# EAGLE library part TC10 (library micro-siemens)
+ Obsolete + TC10 GP TriCore 32bit Microcontroller+ DSP Source: http://www.infineon.com ..
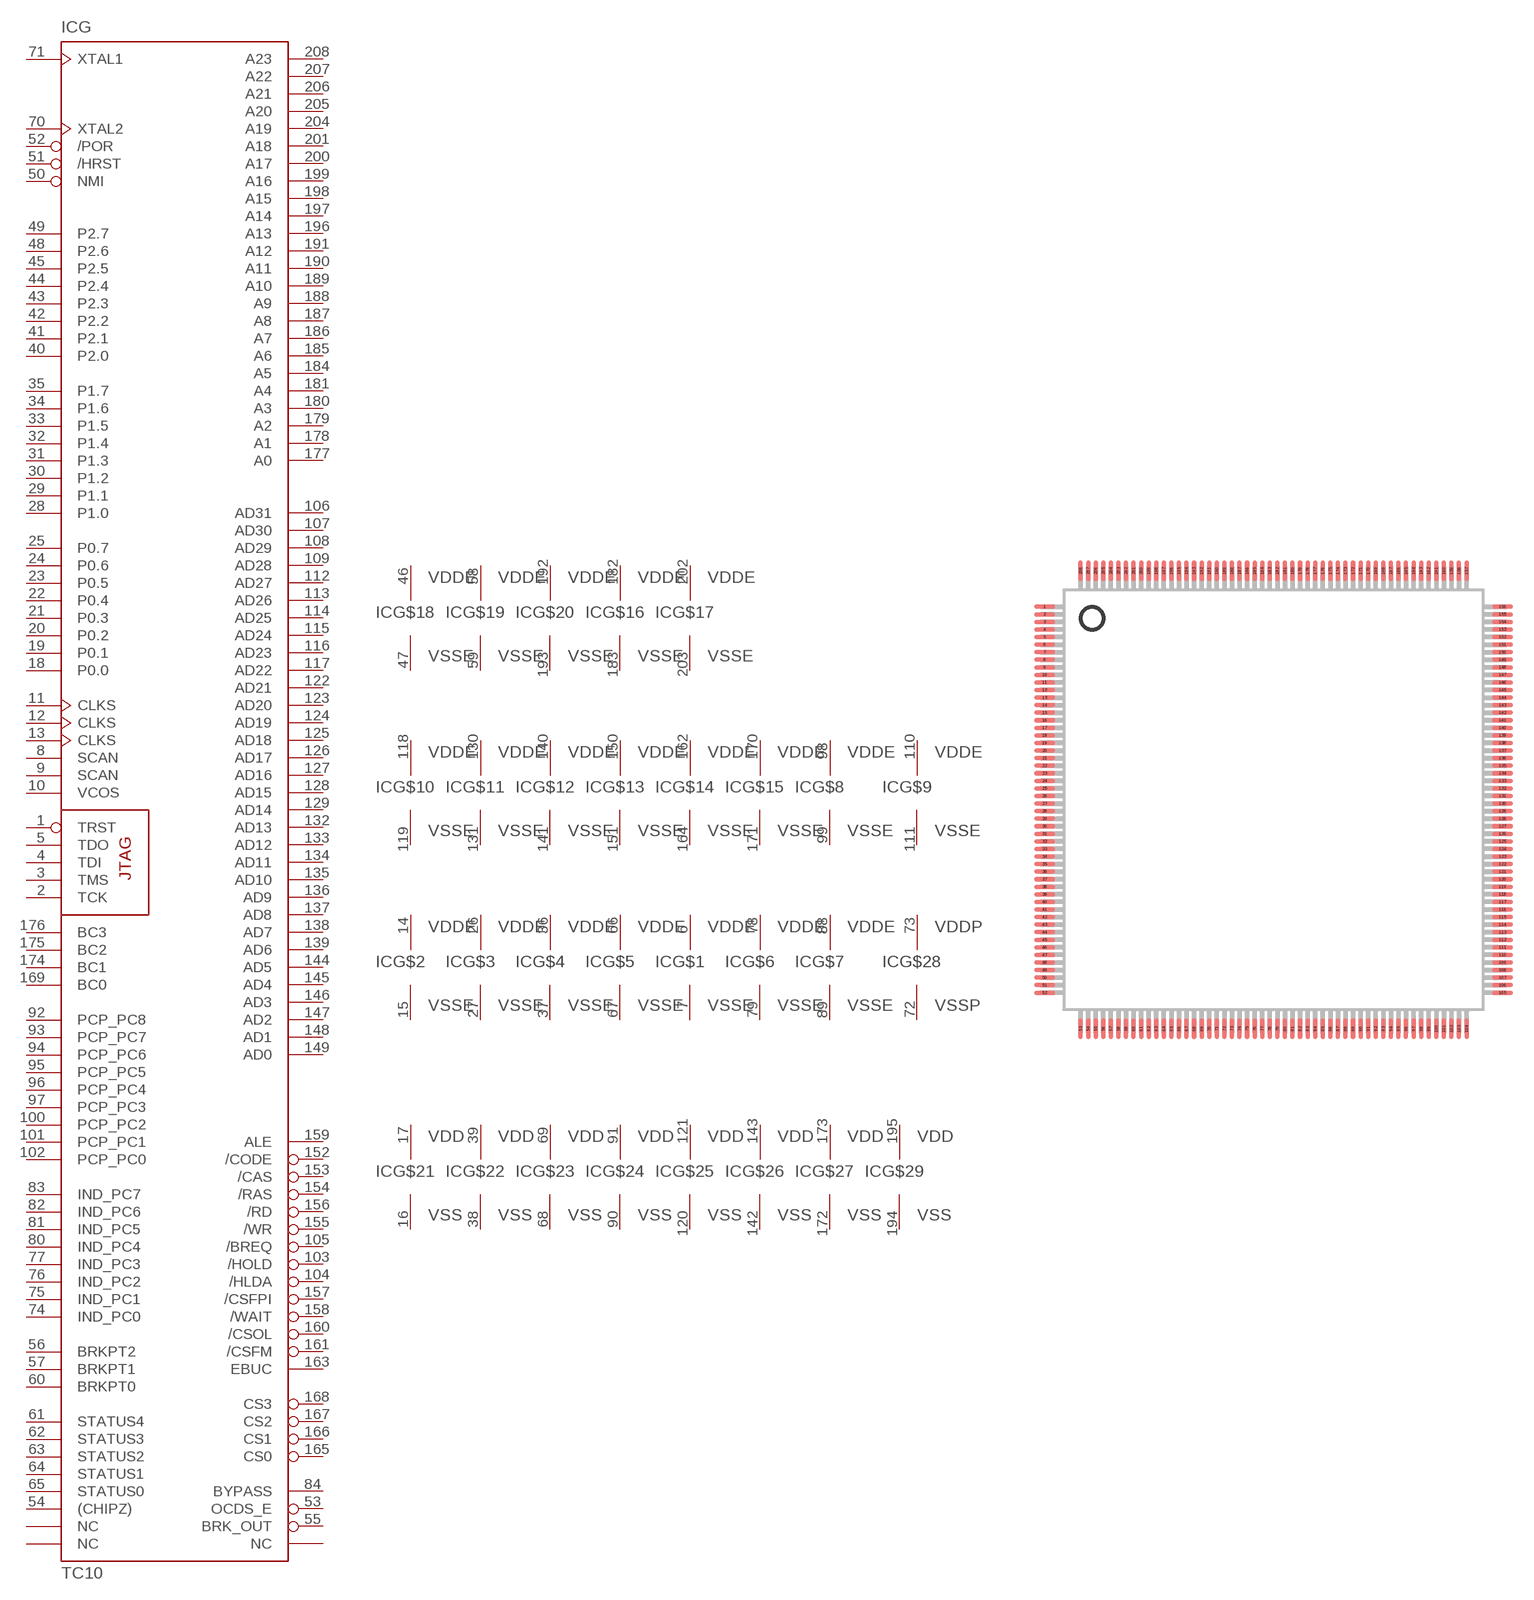
[diagram p43: symbol with the pads of FQFP208-2; footprint FQFP208-2]

Designator prefix IC; gates G=TC10 G$2=VSSE_VDD G$3=VSSE_VDD G$4=VSSE_VDD G$5=VSSE_VDD G$6=VSSE_VDD G$7=VSSE_VDD G$8=VSSE_VDD G$9=VSSE_VDD G$10=VSSE_VDD G$11=VSSE_VDD G$12=VSSE_VDD G$13=VSSE_VDD G$14=VSSE_VDD G$15=VSSE_VDD G$16=VSSE_VDD G$17=VSSE_VDD G$18=VSSE_VDD G$19=VSSE_VDD G$20=VSSE_VDD G$21=VSS_VDD G$22=VSS_VDD G$23=VSS_VDD G$24=VSS_VDD G$25=VSS_VDD G$26=VSS_VDD G$27=VSS_VDD G$28=VSSP_VDD G$1=VSSE_VDD G$29=VSS_VDD

## TC10 (OC_FARNELL: unknown; OC_NEWARK: unknown)  [FQFP208-2]
1  G:TRST  in
2  G:TCK  in
3  G:TMS  in
4  G:TDI  in
5  G:TDO  in
6  G$1:VDDE  pwr
7  G$1:VSSE  pwr
8  G:SCAN  in
9  G:SCAN  in
10  G:VCOS  in
11  G:CLKS  in
12  G:CLKS  in
13  G:CLKS  in
14  G$2:VDDE  pwr
15  G$2:VSSE  pwr
16  G$21:VSS  pwr
17  G$21:VDD  pwr
18  G:P0.0
19  G:P0.1
20  G:P0.2
21  G:P0.3
22  G:P0.4
23  G:P0.5
24  G:P0.6
25  G:P0.7
26  G$3:VDDE  pwr
27  G$3:VSSE  pwr
28  G:P1.0
29  G:P1.1
30  G:P1.2
31  G:P1.3
32  G:P1.4
33  G:P1.5
34  G:P1.6
35  G:P1.7
36  G$4:VDDE  pwr
37  G$4:VSSE  pwr
38  G$22:VSS  pwr
39  G$22:VDD  pwr
40  G:P2.0
41  G:P2.1
42  G:P2.2
43  G:P2.3
44  G:P2.4
45  G:P2.5
46  G$18:VDDE  pwr
47  G$18:VSSE  pwr
48  G:P2.6
49  G:P2.7
50  G:NMI  in
51  G:/HRST  in
52  G:/POR  in
53  G:OCDS_E  out
54  G:(CHIPZ)
55  G:BRK_OUT  out
56  G:BRKPT2
57  G:BRKPT1
58  G$19:VDDE  pwr
59  G$19:VSSE  pwr
60  G:BRKPT0
61  G:STATUS4
62  G:STATUS3
63  G:STATUS2
64  G:STATUS1
65  G:STATUS0
66  G$5:VDDE  pwr
67  G$5:VSSE  pwr
68  G$23:VSS  pwr
69  G$23:VDD  pwr
70  G:XTAL2  out
71  G:XTAL1  in
72  G$28:VSSP  pwr
73  G$28:VDDP  pwr
74  G:IND_PC0
75  G:IND_PC1
76  G:IND_PC2
77  G:IND_PC3
78  G$6:VDDE  pwr
79  G$6:VSSE  pwr
80  G:IND_PC4
81  G:IND_PC5
82  G:IND_PC6
83  G:IND_PC7
84  G:BYPASS
85  G:NC  nc
86  G:NC  nc
87  G:NC  nc
88  G$7:VDDE  pwr
89  G$7:VSSE  pwr
90  G$24:VSS  pwr
91  G$24:VDD  pwr
92  G:PCP_PC8
93  G:PCP_PC7
94  G:PCP_PC6
95  G:PCP_PC5
96  G:PCP_PC4
97  G:PCP_PC3
98  G$8:VDDE  pwr
99  G$8:VSSE  pwr
100  G:PCP_PC2
101  G:PCP_PC1
102  G:PCP_PC0
103  G:/HOLD  out
104  G:/HLDA  out
105  G:/BREQ  out
106  G:AD31
107  G:AD30
108  G:AD29
109  G:AD28
110  G$9:VDDE  pwr
111  G$9:VSSE  pwr
112  G:AD27
113  G:AD26
114  G:AD25
115  G:AD24
116  G:AD23
117  G:AD22
118  G$10:VDDE  pwr
119  G$10:VSSE  pwr
120  G$25:VSS  pwr
121  G$25:VDD  pwr
122  G:AD21
123  G:AD20
124  G:AD19
125  G:AD18
126  G:AD17
127  G:AD16
128  G:AD15
129  G:AD14
130  G$11:VDDE  pwr
131  G$11:VSSE  pwr
132  G:AD13
133  G:AD12
134  G:AD11
135  G:AD10
136  G:AD9
137  G:AD8
138  G:AD7
139  G:AD6
140  G$12:VDDE  pwr
141  G$12:VSSE  pwr
142  G$26:VSS  pwr
143  G$26:VDD  pwr
144  G:AD5
145  G:AD4
146  G:AD3
147  G:AD2
148  G:AD1
149  G:AD0
150  G$13:VDDE  pwr
151  G$13:VSSE  pwr
152  G:/CODE  out
153  G:/CAS  out
154  G:/RAS  out
155  G:/WR  out
156  G:/RD  out
157  G:/CSFPI  out
158  G:/WAIT  out
159  G:ALE  out
160  G:/CSOL  out
161  G:/CSFM  out
162  G$14:VDDE  pwr
163  G:EBUC  out
164  G$14:VSSE  pwr
165  G:CS0  out
166  G:CS1  out
167  G:CS2  out
168  G:CS3  out
169  G:BC0
170  G$15:VDDE  pwr
171  G$15:VSSE  pwr
172  G$27:VSS  pwr
173  G$27:VDD  pwr
174  G:BC1
175  G:BC2
176  G:BC3
177  G:A0  out
178  G:A1  out
179  G:A2  out
180  G:A3  out
181  G:A4  out
182  G$16:VDDE  pwr
183  G$16:VSSE  pwr
184  G:A5  out
185  G:A6  out
186  G:A7  out
187  G:A8  out
188  G:A9  out
189  G:A10  out
190  G:A11  out
191  G:A12  out
192  G$20:VDDE  pwr
193  G$20:VSSE  pwr
194  G$29:VSS  pwr
195  G$29:VDD  pwr
196  G:A13  out
197  G:A14  out
198  G:A15  out
199  G:A16  out
200  G:A17  out
201  G:A18  out
202  G$17:VDDE  pwr
203  G$17:VSSE  pwr
204  G:A19  out
205  G:A20  out
206  G:A21  out
207  G:A22  out
208  G:A23  out

## Footprint FQFP208-2 (pad centres in mm)
P-FQFP-208-2, -4, -7 Plastic Fine Pitch Quad Flat Package Source: http://www.infineon.com
smd 1.4 x 0.31: 1 -15.125,12.75; 2 -15.125,12.25; 3 -15.125,11.75; 4 -15.125,11.25; 5 -15.125,10.75; 6 -15.125,10.25; 7 -15.125,9.75; 8 -15.125,9.25; 9 -15.125,8.75; 10 -15.125,8.25; 11 -15.125,7.75; 12 -15.125,7.25; 13 -15.125,6.75; 14 -15.125,6.25; 15 -15.125,5.75; 16 -15.125,5.25; 17 -15.125,4.75; 18 -15.125,4.25; 19 -15.125,3.75; 20 -15.125,3.25; 21 -15.125,2.75; 22 -15.125,2.25; 23 -15.125,1.75; 24 -15.125,1.25; 25 -15.125,0.75; 26 -15.125,0.25; 27 -15.125,-0.25; 28 -15.125,-0.75; 29 -15.125,-1.25; 30 -15.125,-1.75; 31 -15.125,-2.25; 32 -15.125,-2.75; 33 -15.125,-3.25; 34 -15.125,-3.75; 35 -15.125,-4.25; 36 -15.125,-4.75; 37 -15.125,-5.25; 38 -15.125,-5.75; 39 -15.125,-6.25; 40 -15.125,-6.75; 41 -15.125,-7.25; 42 -15.125,-7.75; 43 -15.125,-8.25; 44 -15.125,-8.75; 45 -15.125,-9.25; 46 -15.125,-9.75; 47 -15.125,-10.25; 48 -15.125,-10.75; 49 -15.125,-11.25; 50 -15.125,-11.75; 51 -15.125,-12.25; 52 -15.125,-12.75; 105 15.125,-12.75; 106 15.125,-12.25; 107 15.125,-11.75; 108 15.125,-11.25; 109 15.125,-10.75; 110 15.125,-10.25; 111 15.125,-9.75; 112 15.125,-9.25; 113 15.125,-8.75; 114 15.125,-8.25; 115 15.125,-7.75; 116 15.125,-7.25; 117 15.125,-6.75; 118 15.125,-6.25; 119 15.125,-5.75; 120 15.125,-5.25; 121 15.125,-4.75; 122 15.125,-4.25; 123 15.125,-3.75; 124 15.125,-3.25; 125 15.125,-2.75; 126 15.125,-2.25; 127 15.125,-1.75; 128 15.125,-1.25; 129 15.125,-0.75; 130 15.125,-0.25; 131 15.125,0.25; 132 15.125,0.75; 133 15.125,1.25; 134 15.125,1.75; 135 15.125,2.25; 136 15.125,2.75; 137 15.125,3.25; 138 15.125,3.75; 139 15.125,4.25; 140 15.125,4.75; 141 15.125,5.25; 142 15.125,5.75; 143 15.125,6.25; 144 15.125,6.75; 145 15.125,7.25; 146 15.125,7.75; 147 15.125,8.25; 148 15.125,8.75; 149 15.125,9.25; 150 15.125,9.75; 151 15.125,10.25; 152 15.125,10.75; 153 15.125,11.25; 154 15.125,11.75; 155 15.125,12.25; 156 15.125,12.75
smd 0.31 x 1.4: 53 -12.75,-15.125; 54 -12.25,-15.125; 55 -11.75,-15.125; 56 -11.25,-15.125; 57 -10.75,-15.125; 58 -10.25,-15.125; 59 -9.75,-15.125; 60 -9.25,-15.125; 61 -8.75,-15.125; 62 -8.25,-15.125; 63 -7.75,-15.125; 64 -7.25,-15.125; 65 -6.75,-15.125; 66 -6.25,-15.125; 67 -5.75,-15.125; 68 -5.25,-15.125; 69 -4.75,-15.125; 70 -4.25,-15.125; 71 -3.75,-15.125; 72 -3.25,-15.125; 73 -2.75,-15.125; 74 -2.25,-15.125; 75 -1.75,-15.125; 76 -1.25,-15.125; 77 -0.75,-15.125; 78 -0.25,-15.125; 79 0.25,-15.125; 80 0.75,-15.125; 81 1.25,-15.125; 82 1.75,-15.125; 83 2.25,-15.125; 84 2.75,-15.125; 85 3.25,-15.125; 86 3.75,-15.125; 87 4.25,-15.125; 88 4.75,-15.125; 89 5.25,-15.125; 90 5.75,-15.125; 91 6.25,-15.125; 92 6.75,-15.125; 93 7.25,-15.125; 94 7.75,-15.125; 95 8.25,-15.125; 96 8.75,-15.125; 97 9.25,-15.125; 98 9.75,-15.125; 99 10.25,-15.125; 100 10.75,-15.125; 101 11.25,-15.125; 102 11.75,-15.125; 103 12.25,-15.125; 104 12.75,-15.125; 157 12.75,15.125; 158 12.25,15.125; 159 11.75,15.125; 160 11.25,15.125; 161 10.75,15.125; 162 10.25,15.125; 163 9.75,15.125; 164 9.25,15.125; 165 8.75,15.125; 166 8.25,15.125; 167 7.75,15.125; 168 7.25,15.125; 169 6.75,15.125; 170 6.25,15.125; 171 5.75,15.125; 172 5.25,15.125; 173 4.75,15.125; 174 4.25,15.125; 175 3.75,15.125; 176 3.25,15.125; 177 2.75,15.125; 178 2.25,15.125; 179 1.75,15.125; 180 1.25,15.125; 181 0.75,15.125; 182 0.25,15.125; 183 -0.25,15.125; 184 -0.75,15.125; 185 -1.25,15.125; 186 -1.75,15.125; 187 -2.25,15.125; 188 -2.75,15.125; 189 -3.25,15.125; 190 -3.75,15.125; 191 -4.25,15.125; 192 -4.75,15.125; 193 -5.25,15.125; 194 -5.75,15.125; 195 -6.25,15.125; 196 -6.75,15.125; 197 -7.25,15.125; 198 -7.75,15.125; 199 -8.25,15.125; 200 -8.75,15.125; 201 -9.25,15.125; 202 -9.75,15.125; 203 -10.25,15.125; 204 -10.75,15.125; 205 -11.25,15.125; 206 -11.75,15.125; 207 -12.25,15.125; 208 -12.75,15.125